# Altium integrated library Linear Technology Power Management LDO Linear Regulators.IntLib: 2339 symbols (part 55 of 131)
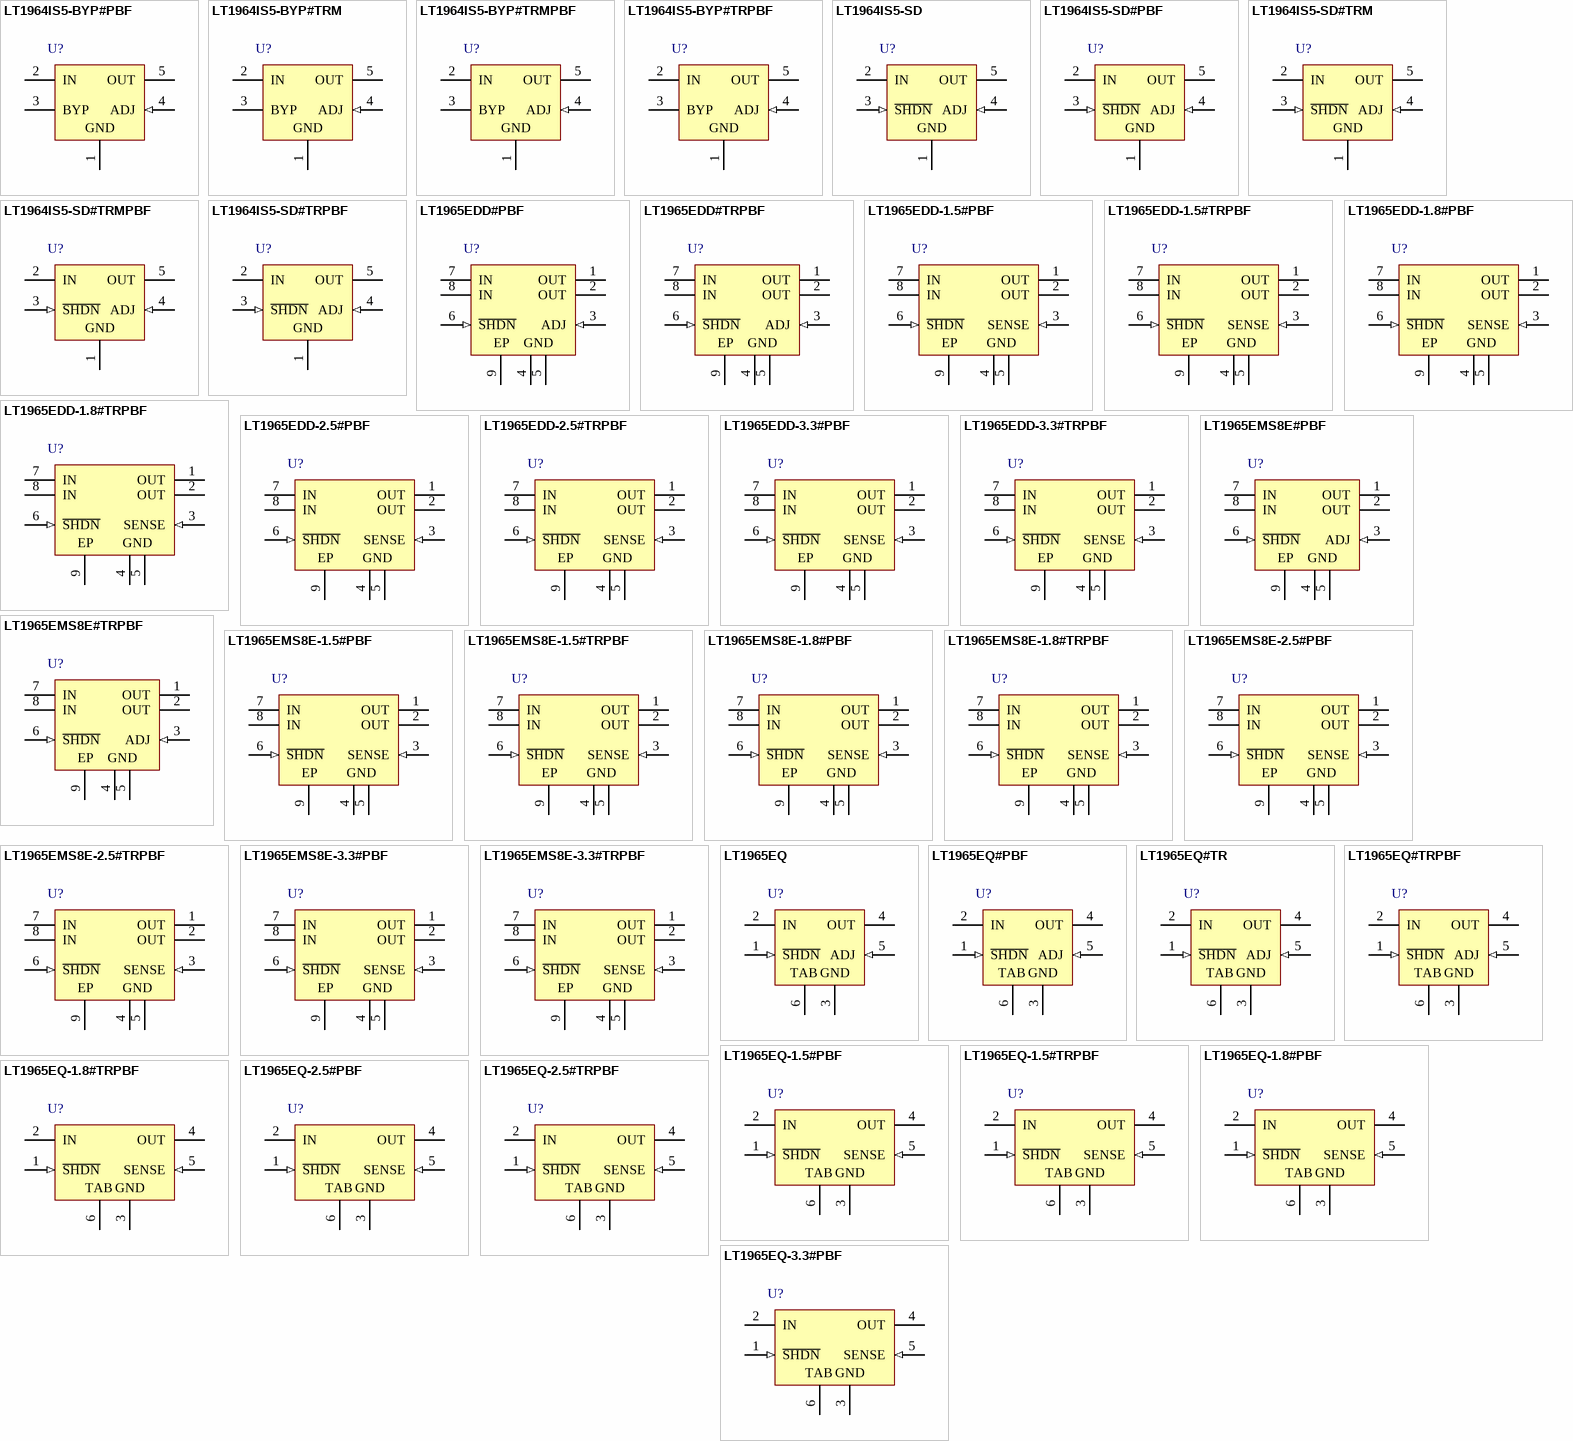
[diagram p123: symbols LT1964IS5-BYP#PBF to LT1965EQ-3.3#PBF]

## LT1965EQ#TR
designator U?
1.1 A, Low Noise, Low Dropout Linear Regulator, 1.8 to 20 V Vin, Adjustable Vout, 5-pin DPAK (Q-5), -40 to 125 degC, Tape and Reel; Manufacturer: Linear Technology; PartNumber: LT1965EQ#TR; Discrete Pass Element: no; Dropout Voltage(V): 0.31; Iout(mA): 1100; Isupply(mA): 0.5; Noise(uV): 40; Number of Outputs: 1; Output Voltage: Adj; PSRR(dB): 75; Vin Max(V): 20; Vin Min(V): 1.8; Vout Max(V): 19.5; Vout Min(V): 1.2; DatasheetVersion: Rev. A; PackageVersion: Rev. F, 09/2011; PackageReference: Q-5; PackageDescription: 5-Pin Plastic DD Pak, Body 10.2235 x 8.89 mm, Pitch 1.702 mm; Packing: Tape and Reel; RoHS: FALSE; Shutdown Current(uA): 1; Mounting Technology: Surface Mount; ComponentLink1Description: Manufacturer URL; ComponentLink1URL: http://www.linear.com/; ComponentLink2Description: Datasheet; ComponentLink2URL: http://cds.linear.com/docs/en/datasheet/1965fa.pdf; ComponentLink3Description: Package Specification; ComponentLink3URL: http://cds.linear.com/docs/en/packaging/Q%20DD5%2005-08-1461%20Rev%20F.pdf
footprint LT-Q-5_N (DPAK, 5-Leads, Body 10.22x8.89mm, Pitch 1.702mm, IPC Medium Density)
footprint LT-Q-5_L (DPAK, 5-Leads, Body 10.22x8.89mm, Pitch 1.702mm, IPC High Density)
footprint LT-Q-5_M (DPAK, 5-Leads, Body 10.22x8.89mm, Pitch 1.702mm, IPC Low Density)
pins: 1 ~{SHDN} (in) "Shutdown", 2 IN (power) "Input", 3 GND (power) "Ground", 4 OUT (power) "Output", 5 ADJ (in) "Adjust", 6 TAB (power) "Ground"

## LT1965EQ#TRPBF
designator U?
1.1 A, Low Noise, Low Dropout Linear Regulator, 1.8 to 20 V Vin, Adjustable Vout, 5-pin DPAK (Q-5), -40 to 125 degC, Pb-Free, Tape and Reel; Manufacturer: Linear Technology; PartNumber: LT1965EQ#TRPBF; Discrete Pass Element: no; Dropout Voltage(V): 0.31; Iout(mA): 1100; Isupply(mA): 0.5; Noise(uV): 40; Number of Outputs: 1; Output Voltage: Adj; PSRR(dB): 75; Vin Max(V): 20; Vin Min(V): 1.8; Vout Max(V): 19.5; Vout Min(V): 1.2; DatasheetVersion: Rev. A; PackageVersion: Rev. F, 09/2011; PackageReference: Q-5; PackageDescription: 5-Pin Plastic DD Pak, Body 10.2235 x 8.89 mm, Pitch 1.702 mm; Supplier 1: Digi-Key; Supplier Part Number 1: LT1965EQ#TRPBF-ND; Packing: Tape and Reel; RoHS: TRUE; Shutdown Current(uA): 1; Mounting Technology: Surface Mount; ComponentLink1Description: Manufacturer URL; ComponentLink1URL: http://www.linear.com/; ComponentLink2Description: Datasheet; ComponentLink2URL: http://cds.linear.com/docs/en/datasheet/1965fa.pdf; ComponentLink3Description: Package Specification; ComponentLink3URL: http://cds.linear.com/docs/en/packaging/Q%20DD5%2005-08-1461%20Rev%20F.pdf
footprint LT-Q-5_N (DPAK, 5-Leads, Body 10.22x8.89mm, Pitch 1.702mm, IPC Medium Density)
footprint LT-Q-5_L (DPAK, 5-Leads, Body 10.22x8.89mm, Pitch 1.702mm, IPC High Density)
footprint LT-Q-5_M (DPAK, 5-Leads, Body 10.22x8.89mm, Pitch 1.702mm, IPC Low Density)
pins: 1 ~{SHDN} (in) "Shutdown", 2 IN (power) "Input", 3 GND (power) "Ground", 4 OUT (power) "Output", 5 ADJ (in) "Adjust", 6 TAB (power) "Ground"

## LT1965EQ-1.5#PBF
designator U?
1.1 A, Low Noise, Low Dropout Linear Regulator, 1.8 to 20 V Vin, 1.5 V Vout, 5-pin DPAK (Q-5), -40 to 125 degC, Pb-Free; Manufacturer: Linear Technology; PartNumber: LT1965EQ-1.5#PBF; Discrete Pass Element: no; Dropout Voltage(V): 0.31; Iout(mA): 1100; Isupply(mA): 0.5; Noise(uV): 40; Number of Outputs: 1; Output Voltage: 1.5 V; PSRR(dB): 75; Vin Max(V): 20; Vin Min(V): 1.8; DatasheetVersion: Rev. A; PackageVersion: Rev. F, 09/2011; PackageReference: Q-5; PackageDescription: 5-Pin Plastic DD Pak, Body 10.2235 x 8.89 mm, Pitch 1.702 mm; Supplier 1: Digi-Key; Supplier Part Number 1: LT1965EQ-1.5#PBF-ND; Supplier 2: Newark; Supplier Part Number 2: 24R6667; RoHS: TRUE; Shutdown Current(uA): 1; Mounting Technology: Surface Mount; ComponentLink1Description: Manufacturer URL; ComponentLink1URL: http://www.linear.com/; ComponentLink2Description: Datasheet; ComponentLink2URL: http://cds.linear.com/docs/en/datasheet/1965fa.pdf; ComponentLink3Description: Package Specification; ComponentLink3URL: http://cds.linear.com/docs/en/packaging/Q%20DD5%2005-08-1461%20Rev%20F.pdf
footprint LT-Q-5_N (DPAK, 5-Leads, Body 10.22x8.89mm, Pitch 1.702mm, IPC Medium Density)
footprint LT-Q-5_L (DPAK, 5-Leads, Body 10.22x8.89mm, Pitch 1.702mm, IPC High Density)
footprint LT-Q-5_M (DPAK, 5-Leads, Body 10.22x8.89mm, Pitch 1.702mm, IPC Low Density)
pins: 1 ~{SHDN} (in) "Shutdown. Pulling the S\H\D\N\ pin low puts the LT1965 into a low power state and turns the output off. Drive the S\H\D\N\ pin with either logic or an open collector/drain with a pull-up resistor. The resistor supplies the (See Datasheet)", 2 IN (power) "Input. This pin supplies power to the device. The LT1965 requires a bypass capacitor at IN if located more than six inches from the main input filter capacitor. Include a bypass capacitor in battery-powered circuits as a (See Datasheet)", 3 GND (power) "Ground.", 4 OUT (power) "Output. This pin supplies power to the load. Use a minimum output capacitor of 10uF to prevent oscillations. Large load transient applications require larger output capacitors to limit peak voltage transients. See the (See Datasheet)", 5 SENSE (in) "Sense. For fixed voltage versions of the LT1965 (LT1965-1.5/LT1965-1.8/ LT1965-2.5/ LT1965-3.3), the SENSE pin is the input to the error amplifier. Optimum regulation is obtained when the SENSE pin is connected to the OUT (See Datasheet)", 6 TAB (power) "Ground."

## LT1965EQ-1.5#TRPBF
designator U?
1.1 A, Low Noise, Low Dropout Linear Regulator, 1.8 to 20 V Vin, 1.5 V Vout, 5-pin DPAK (Q-5), -40 to 125 degC, Pb-Free, Tape and Reel; Manufacturer: Linear Technology; PartNumber: LT1965EQ-1.5#TRPBF; Discrete Pass Element: no; Dropout Voltage(V): 0.31; Iout(mA): 1100; Isupply(mA): 0.5; Noise(uV): 40; Number of Outputs: 1; Output Voltage: 1.5 V; PSRR(dB): 75; Vin Max(V): 20; Vin Min(V): 1.8; DatasheetVersion: Rev. A; PackageVersion: Rev. F, 09/2011; PackageReference: Q-5; PackageDescription: 5-Pin Plastic DD Pak, Body 10.2235 x 8.89 mm, Pitch 1.702 mm; Supplier 1: Digi-Key; Supplier Part Number 1: LT1965EQ-1.5#TRPBF-ND; Packing: Tape and Reel; RoHS: TRUE; Shutdown Current(uA): 1; Mounting Technology: Surface Mount; ComponentLink1Description: Manufacturer URL; ComponentLink1URL: http://www.linear.com/; ComponentLink2Description: Datasheet; ComponentLink2URL: http://cds.linear.com/docs/en/datasheet/1965fa.pdf; ComponentLink3Description: Package Specification; ComponentLink3URL: http://cds.linear.com/docs/en/packaging/Q%20DD5%2005-08-1461%20Rev%20F.pdf
footprint LT-Q-5_N (DPAK, 5-Leads, Body 10.22x8.89mm, Pitch 1.702mm, IPC Medium Density)
footprint LT-Q-5_L (DPAK, 5-Leads, Body 10.22x8.89mm, Pitch 1.702mm, IPC High Density)
footprint LT-Q-5_M (DPAK, 5-Leads, Body 10.22x8.89mm, Pitch 1.702mm, IPC Low Density)
pins: 1 ~{SHDN} (in) "Shutdown. Pulling the S\H\D\N\ pin low puts the LT1965 into a low power state and turns the output off. Drive the S\H\D\N\ pin with either logic or an open collector/drain with a pull-up resistor. The resistor supplies the (See Datasheet)", 2 IN (power) "Input. This pin supplies power to the device. The LT1965 requires a bypass capacitor at IN if located more than six inches from the main input filter capacitor. Include a bypass capacitor in battery-powered circuits as a (See Datasheet)", 3 GND (power) "Ground.", 4 OUT (power) "Output. This pin supplies power to the load. Use a minimum output capacitor of 10uF to prevent oscillations. Large load transient applications require larger output capacitors to limit peak voltage transients. See the (See Datasheet)", 5 SENSE (in) "Sense. For fixed voltage versions of the LT1965 (LT1965-1.5/LT1965-1.8/ LT1965-2.5/ LT1965-3.3), the SENSE pin is the input to the error amplifier. Optimum regulation is obtained when the SENSE pin is connected to the OUT (See Datasheet)", 6 TAB (power) "Ground."

## LT1965EQ-1.8#PBF
designator U?
1.1 A, Low Noise, Low Dropout Linear Regulator, 1.8 to 20 V Vin, 1.8 V Vout, 5-pin DPAK (Q-5), -40 to 125 degC, Pb-Free; Manufacturer: Linear Technology; PartNumber: LT1965EQ-1.8#PBF; Discrete Pass Element: no; Dropout Voltage(V): 0.31; Iout(mA): 1100; Isupply(mA): 0.5; Noise(uV): 40; Number of Outputs: 1; Output Voltage: 1.8 V; PSRR(dB): 75; Vin Max(V): 20; Vin Min(V): 1.8; DatasheetVersion: Rev. A; PackageVersion: Rev. F, 09/2011; PackageReference: Q-5; PackageDescription: 5-Pin Plastic DD Pak, Body 10.2235 x 8.89 mm, Pitch 1.702 mm; Supplier 1: Digi-Key; Supplier Part Number 1: LT1965EQ-1.8#PBF-ND; RoHS: TRUE; Shutdown Current(uA): 1; Mounting Technology: Surface Mount; ComponentLink1Description: Manufacturer URL; ComponentLink1URL: http://www.linear.com/; ComponentLink2Description: Datasheet; ComponentLink2URL: http://cds.linear.com/docs/en/datasheet/1965fa.pdf; ComponentLink3Description: Package Specification; ComponentLink3URL: http://cds.linear.com/docs/en/packaging/Q%20DD5%2005-08-1461%20Rev%20F.pdf
footprint LT-Q-5_N (DPAK, 5-Leads, Body 10.22x8.89mm, Pitch 1.702mm, IPC Medium Density)
footprint LT-Q-5_L (DPAK, 5-Leads, Body 10.22x8.89mm, Pitch 1.702mm, IPC High Density)
footprint LT-Q-5_M (DPAK, 5-Leads, Body 10.22x8.89mm, Pitch 1.702mm, IPC Low Density)
pins: 1 ~{SHDN} (in) "Shutdown. Pulling the S\H\D\N\ pin low puts the LT1965 into a low power state and turns the output off. Drive the S\H\D\N\ pin with either logic or an open collector/drain with a pull-up resistor. The resistor supplies the (See Datasheet)", 2 IN (power) "Input. This pin supplies power to the device. The LT1965 requires a bypass capacitor at IN if located more than six inches from the main input filter capacitor. Include a bypass capacitor in battery-powered circuits as a (See Datasheet)", 3 GND (power) "Ground.", 4 OUT (power) "Output. This pin supplies power to the load. Use a minimum output capacitor of 10uF to prevent oscillations. Large load transient applications require larger output capacitors to limit peak voltage transients. See the (See Datasheet)", 5 SENSE (in) "Sense. For fixed voltage versions of the LT1965 (LT1965-1.5/LT1965-1.8/ LT1965-2.5/ LT1965-3.3), the SENSE pin is the input to the error amplifier. Optimum regulation is obtained when the SENSE pin is connected to the OUT (See Datasheet)", 6 TAB (power) "Ground."

## LT1965EQ-1.8#TRPBF
designator U?
1.1 A, Low Noise, Low Dropout Linear Regulator, 1.8 to 20 V Vin, 1.8 V Vout, 5-pin DPAK (Q-5), -40 to 125 degC, Pb-Free, Tape and Reel; Manufacturer: Linear Technology; PartNumber: LT1965EQ-1.8#TRPBF; Discrete Pass Element: no; Dropout Voltage(V): 0.31; Iout(mA): 1100; Isupply(mA): 0.5; Noise(uV): 40; Number of Outputs: 1; Output Voltage: 1.8 V; PSRR(dB): 75; Vin Max(V): 20; Vin Min(V): 1.8; DatasheetVersion: Rev. A; PackageVersion: Rev. F, 09/2011; PackageReference: Q-5; PackageDescription: 5-Pin Plastic DD Pak, Body 10.2235 x 8.89 mm, Pitch 1.702 mm; Supplier 1: Digi-Key; Supplier Part Number 1: LT1965EQ-1.8#TRPBF-ND; Packing: Tape and Reel; RoHS: TRUE; Shutdown Current(uA): 1; Mounting Technology: Surface Mount; ComponentLink1Description: Manufacturer URL; ComponentLink1URL: http://www.linear.com/; ComponentLink2Description: Datasheet; ComponentLink2URL: http://cds.linear.com/docs/en/datasheet/1965fa.pdf; ComponentLink3Description: Package Specification; ComponentLink3URL: http://cds.linear.com/docs/en/packaging/Q%20DD5%2005-08-1461%20Rev%20F.pdf
footprint LT-Q-5_N (DPAK, 5-Leads, Body 10.22x8.89mm, Pitch 1.702mm, IPC Medium Density)
footprint LT-Q-5_L (DPAK, 5-Leads, Body 10.22x8.89mm, Pitch 1.702mm, IPC High Density)
footprint LT-Q-5_M (DPAK, 5-Leads, Body 10.22x8.89mm, Pitch 1.702mm, IPC Low Density)
pins: 1 ~{SHDN} (in) "Shutdown. Pulling the S\H\D\N\ pin low puts the LT1965 into a low power state and turns the output off. Drive the S\H\D\N\ pin with either logic or an open collector/drain with a pull-up resistor. The resistor supplies the (See Datasheet)", 2 IN (power) "Input. This pin supplies power to the device. The LT1965 requires a bypass capacitor at IN if located more than six inches from the main input filter capacitor. Include a bypass capacitor in battery-powered circuits as a (See Datasheet)", 3 GND (power) "Ground.", 4 OUT (power) "Output. This pin supplies power to the load. Use a minimum output capacitor of 10uF to prevent oscillations. Large load transient applications require larger output capacitors to limit peak voltage transients. See the (See Datasheet)", 5 SENSE (in) "Sense. For fixed voltage versions of the LT1965 (LT1965-1.5/LT1965-1.8/ LT1965-2.5/ LT1965-3.3), the SENSE pin is the input to the error amplifier. Optimum regulation is obtained when the SENSE pin is connected to the OUT (See Datasheet)", 6 TAB (power) "Ground."

## LT1965EQ-2.5#PBF
designator U?
1.1 A, Low Noise, Low Dropout Linear Regulator, 1.8 to 20 V Vin, 2.5 V Vout, 5-pin DPAK (Q-5), -40 to 125 degC, Pb-Free; Manufacturer: Linear Technology; PartNumber: LT1965EQ-2.5#PBF; Discrete Pass Element: no; Dropout Voltage(V): 0.31; Iout(mA): 1100; Isupply(mA): 0.5; Noise(uV): 40; Number of Outputs: 1; Output Voltage: 2.5 V; PSRR(dB): 75; Vin Max(V): 20; Vin Min(V): 1.8; DatasheetVersion: Rev. A; PackageVersion: Rev. F, 09/2011; PackageReference: Q-5; PackageDescription: 5-Pin Plastic DD Pak, Body 10.2235 x 8.89 mm, Pitch 1.702 mm; Supplier 1: Digi-Key; Supplier Part Number 1: LT1965EQ-2.5#PBF-ND; RoHS: TRUE; Shutdown Current(uA): 1; Mounting Technology: Surface Mount; ComponentLink1Description: Manufacturer URL; ComponentLink1URL: http://www.linear.com/; ComponentLink2Description: Datasheet; ComponentLink2URL: http://cds.linear.com/docs/en/datasheet/1965fa.pdf; ComponentLink3Description: Package Specification; ComponentLink3URL: http://cds.linear.com/docs/en/packaging/Q%20DD5%2005-08-1461%20Rev%20F.pdf
footprint LT-Q-5_N (DPAK, 5-Leads, Body 10.22x8.89mm, Pitch 1.702mm, IPC Medium Density)
footprint LT-Q-5_L (DPAK, 5-Leads, Body 10.22x8.89mm, Pitch 1.702mm, IPC High Density)
footprint LT-Q-5_M (DPAK, 5-Leads, Body 10.22x8.89mm, Pitch 1.702mm, IPC Low Density)
pins: 1 ~{SHDN} (in) "Shutdown. Pulling the S\H\D\N\ pin low puts the LT1965 into a low power state and turns the output off. Drive the S\H\D\N\ pin with either logic or an open collector/drain with a pull-up resistor. The resistor supplies the (See Datasheet)", 2 IN (power) "Input. This pin supplies power to the device. The LT1965 requires a bypass capacitor at IN if located more than six inches from the main input filter capacitor. Include a bypass capacitor in battery-powered circuits as a (See Datasheet)", 3 GND (power) "Ground.", 4 OUT (power) "Output. This pin supplies power to the load. Use a minimum output capacitor of 10uF to prevent oscillations. Large load transient applications require larger output capacitors to limit peak voltage transients. See the (See Datasheet)", 5 SENSE (in) "Sense. For fixed voltage versions of the LT1965 (LT1965-1.5/LT1965-1.8/ LT1965-2.5/ LT1965-3.3), the SENSE pin is the input to the error amplifier. Optimum regulation is obtained when the SENSE pin is connected to the OUT (See Datasheet)", 6 TAB (power) "Ground."

## LT1965EQ-2.5#TRPBF
designator U?
1.1 A, Low Noise, Low Dropout Linear Regulator, 1.8 to 20 V Vin, 2.5 V Vout, 5-pin DPAK (Q-5), -40 to 125 degC, Pb-Free, Tape and Reel; Manufacturer: Linear Technology; PartNumber: LT1965EQ-2.5#TRPBF; Discrete Pass Element: no; Dropout Voltage(V): 0.31; Iout(mA): 1100; Isupply(mA): 0.5; Noise(uV): 40; Number of Outputs: 1; Output Voltage: 2.5 V; PSRR(dB): 75; Vin Max(V): 20; Vin Min(V): 1.8; DatasheetVersion: Rev. A; PackageVersion: Rev. F, 09/2011; PackageReference: Q-5; PackageDescription: 5-Pin Plastic DD Pak, Body 10.2235 x 8.89 mm, Pitch 1.702 mm; Supplier 1: Digi-Key; Supplier Part Number 1: LT1965EQ-2.5#TRPBF-ND; Supplier 2: Newark; Supplier Part Number 2: 24R6672; Packing: Tape and Reel; RoHS: TRUE; Shutdown Current(uA): 1; Mounting Technology: Surface Mount; ComponentLink1Description: Manufacturer URL; ComponentLink1URL: http://www.linear.com/; ComponentLink2Description: Datasheet; ComponentLink2URL: http://cds.linear.com/docs/en/datasheet/1965fa.pdf; ComponentLink3Description: Package Specification; ComponentLink3URL: http://cds.linear.com/docs/en/packaging/Q%20DD5%2005-08-1461%20Rev%20F.pdf
footprint LT-Q-5_N (DPAK, 5-Leads, Body 10.22x8.89mm, Pitch 1.702mm, IPC Medium Density)
footprint LT-Q-5_L (DPAK, 5-Leads, Body 10.22x8.89mm, Pitch 1.702mm, IPC High Density)
footprint LT-Q-5_M (DPAK, 5-Leads, Body 10.22x8.89mm, Pitch 1.702mm, IPC Low Density)
pins: 1 ~{SHDN} (in) "Shutdown. Pulling the S\H\D\N\ pin low puts the LT1965 into a low power state and turns the output off. Drive the S\H\D\N\ pin with either logic or an open collector/drain with a pull-up resistor. The resistor supplies the (See Datasheet)", 2 IN (power) "Input. This pin supplies power to the device. The LT1965 requires a bypass capacitor at IN if located more than six inches from the main input filter capacitor. Include a bypass capacitor in battery-powered circuits as a (See Datasheet)", 3 GND (power) "Ground.", 4 OUT (power) "Output. This pin supplies power to the load. Use a minimum output capacitor of 10uF to prevent oscillations. Large load transient applications require larger output capacitors to limit peak voltage transients. See the (See Datasheet)", 5 SENSE (in) "Sense. For fixed voltage versions of the LT1965 (LT1965-1.5/LT1965-1.8/ LT1965-2.5/ LT1965-3.3), the SENSE pin is the input to the error amplifier. Optimum regulation is obtained when the SENSE pin is connected to the OUT (See Datasheet)", 6 TAB (power) "Ground."

## LT1965EQ-3.3#PBF
designator U?
1.1 A, Low Noise, Low Dropout Linear Regulator, 1.8 to 20 V Vin, 3.3 V Vout, 5-pin DPAK (Q-5), -40 to 125 degC, Pb-Free; Manufacturer: Linear Technology; PartNumber: LT1965EQ-3.3#PBF; Discrete Pass Element: no; Dropout Voltage(V): 0.31; Iout(mA): 1100; Isupply(mA): 0.5; Noise(uV): 40; Number of Outputs: 1; Output Voltage: 3.3 V; PSRR(dB): 75; Vin Max(V): 20; Vin Min(V): 1.8; DatasheetVersion: Rev. A; PackageVersion: Rev. F, 09/2011; PackageReference: Q-5; PackageDescription: 5-Pin Plastic DD Pak, Body 10.2235 x 8.89 mm, Pitch 1.702 mm; Supplier 1: Digi-Key; Supplier Part Number 1: LT1965EQ-3.3#PBF-ND; Supplier 2: Farnell; Supplier Part Number 2: 2295232; Supplier 3: Newark; Supplier Part Number 3: 24R6673; RoHS: TRUE; Shutdown Current(uA): 1; Mounting Technology: Surface Mount; ComponentLink1Description: Manufacturer URL; ComponentLink1URL: http://www.linear.com/; ComponentLink2Description: Datasheet; ComponentLink2URL: http://cds.linear.com/docs/en/datasheet/1965fa.pdf; ComponentLink3Description: Package Specification; ComponentLink3URL: http://cds.linear.com/docs/en/packaging/Q%20DD5%2005-08-1461%20Rev%20F.pdf
footprint LT-Q-5_N (DPAK, 5-Leads, Body 10.22x8.89mm, Pitch 1.702mm, IPC Medium Density)
footprint LT-Q-5_L (DPAK, 5-Leads, Body 10.22x8.89mm, Pitch 1.702mm, IPC High Density)
footprint LT-Q-5_M (DPAK, 5-Leads, Body 10.22x8.89mm, Pitch 1.702mm, IPC Low Density)
pins: 1 ~{SHDN} (in) "Shutdown. Pulling the S\H\D\N\ pin low puts the LT1965 into a low power state and turns the output off. Drive the S\H\D\N\ pin with either logic or an open collector/drain with a pull-up resistor. The resistor supplies the (See Datasheet)", 2 IN (power) "Input. This pin supplies power to the device. The LT1965 requires a bypass capacitor at IN if located more than six inches from the main input filter capacitor. Include a bypass capacitor in battery-powered circuits as a (See Datasheet)", 3 GND (power) "Ground.", 4 OUT (power) "Output. This pin supplies power to the load. Use a minimum output capacitor of 10uF to prevent oscillations. Large load transient applications require larger output capacitors to limit peak voltage transients. See the (See Datasheet)", 5 SENSE (in) "Sense. For fixed voltage versions of the LT1965 (LT1965-1.5/LT1965-1.8/ LT1965-2.5/ LT1965-3.3), the SENSE pin is the input to the error amplifier. Optimum regulation is obtained when the SENSE pin is connected to the OUT (See Datasheet)", 6 TAB (power) "Ground."

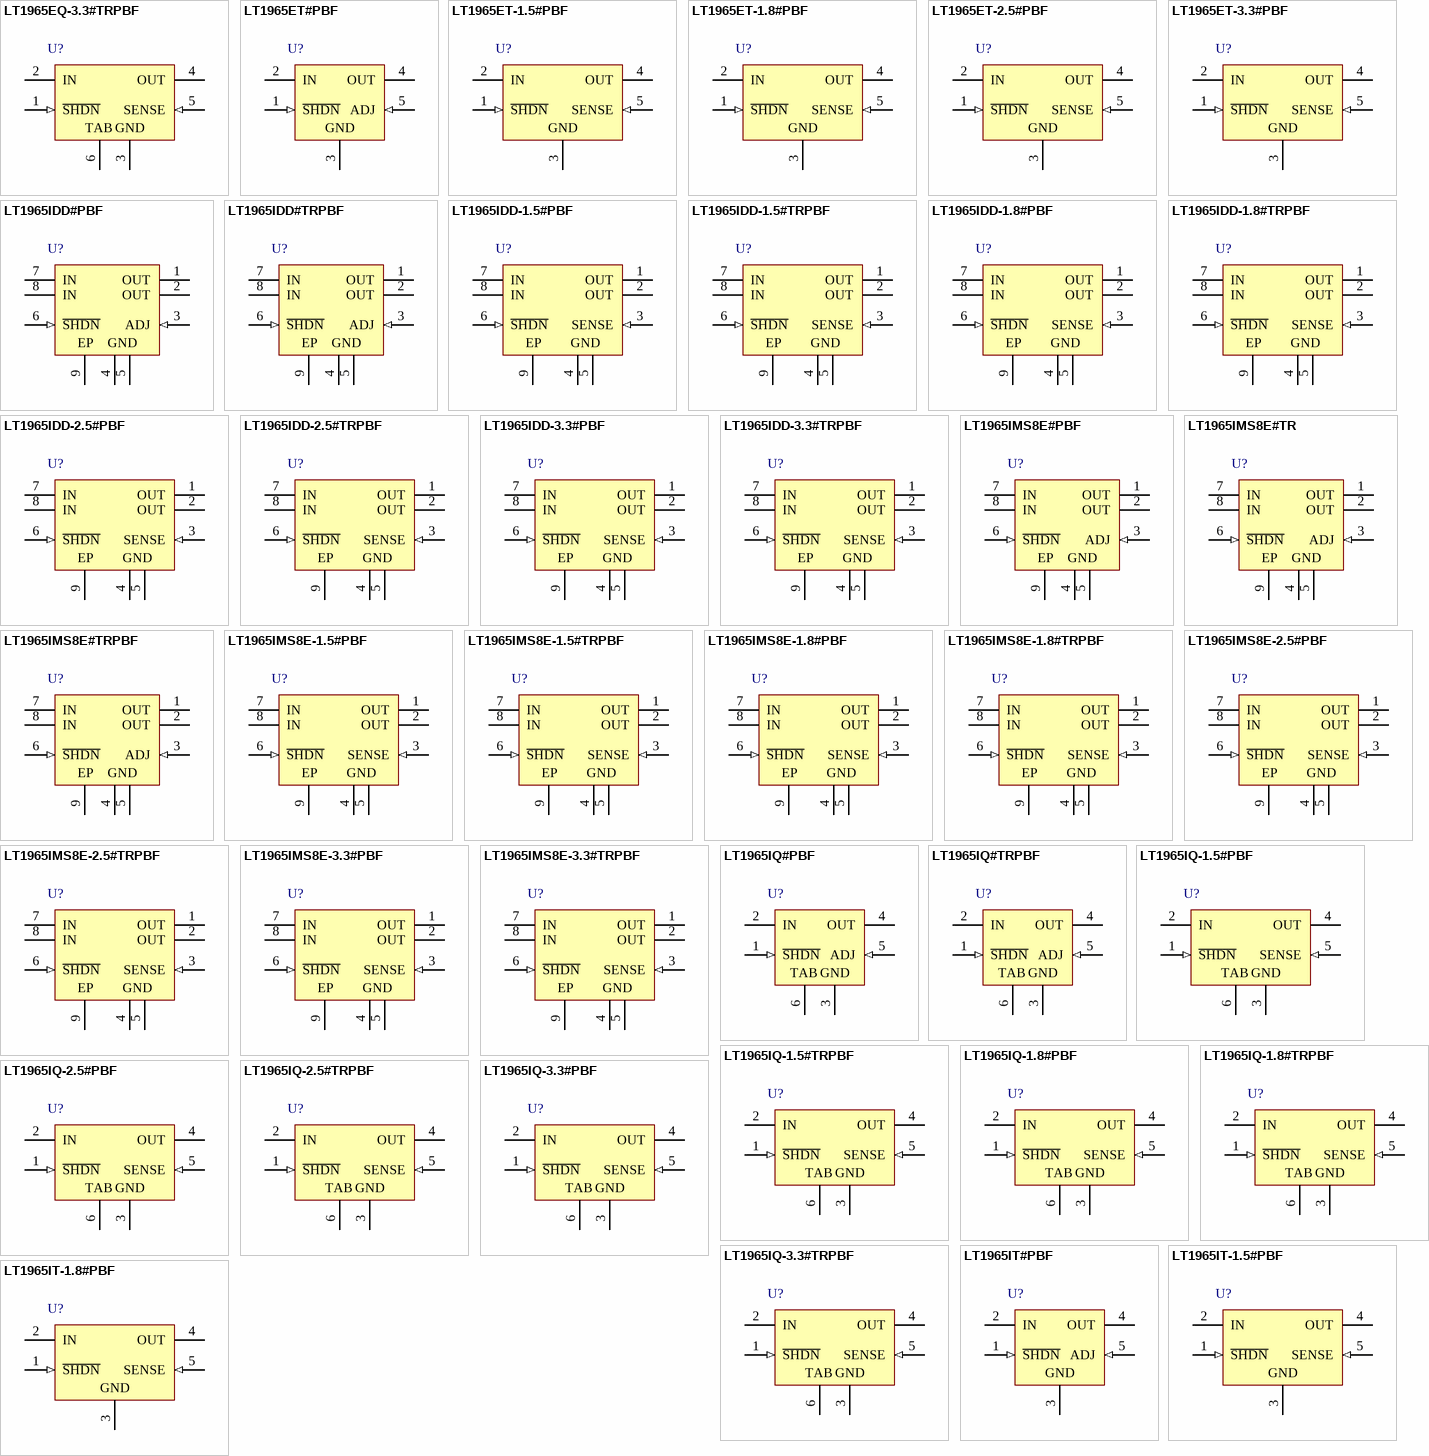
[diagram p36: symbols LT1965EQ-3.3#TRPBF to LT1965IT-1.8#PBF]

## LT1965EQ-3.3#TRPBF
designator U?
1.1 A, Low Noise, Low Dropout Linear Regulator, 1.8 to 20 V Vin, 3.3 V Vout, 5-pin DPAK (Q-5), -40 to 125 degC, Pb-Free, Tape and Reel; Manufacturer: Linear Technology; PartNumber: LT1965EQ-3.3#TRPBF; Discrete Pass Element: no; Dropout Voltage(V): 0.31; Iout(mA): 1100; Isupply(mA): 0.5; Noise(uV): 40; Number of Outputs: 1; Output Voltage: 3.3 V; PSRR(dB): 75; Vin Max(V): 20; Vin Min(V): 1.8; DatasheetVersion: Rev. A; PackageVersion: Rev. F, 09/2011; PackageReference: Q-5; PackageDescription: 5-Pin Plastic DD Pak, Body 10.2235 x 8.89 mm, Pitch 1.702 mm; Supplier 1: Digi-Key; Supplier Part Number 1: LT1965EQ-3.3#TRPBF-ND; Packing: Tape and Reel; RoHS: TRUE; Shutdown Current(uA): 1; Mounting Technology: Surface Mount; ComponentLink1Description: Manufacturer URL; ComponentLink1URL: http://www.linear.com/; ComponentLink2Description: Datasheet; ComponentLink2URL: http://cds.linear.com/docs/en/datasheet/1965fa.pdf; ComponentLink3Description: Package Specification; ComponentLink3URL: http://cds.linear.com/docs/en/packaging/Q%20DD5%2005-08-1461%20Rev%20F.pdf
footprint LT-Q-5_N (DPAK, 5-Leads, Body 10.22x8.89mm, Pitch 1.702mm, IPC Medium Density)
footprint LT-Q-5_L (DPAK, 5-Leads, Body 10.22x8.89mm, Pitch 1.702mm, IPC High Density)
footprint LT-Q-5_M (DPAK, 5-Leads, Body 10.22x8.89mm, Pitch 1.702mm, IPC Low Density)
pins: 1 ~{SHDN} (in) "Shutdown. Pulling the S\H\D\N\ pin low puts the LT1965 into a low power state and turns the output off. Drive the S\H\D\N\ pin with either logic or an open collector/drain with a pull-up resistor. The resistor supplies the (See Datasheet)", 2 IN (power) "Input. This pin supplies power to the device. The LT1965 requires a bypass capacitor at IN if located more than six inches from the main input filter capacitor. Include a bypass capacitor in battery-powered circuits as a (See Datasheet)", 3 GND (power) "Ground.", 4 OUT (power) "Output. This pin supplies power to the load. Use a minimum output capacitor of 10uF to prevent oscillations. Large load transient applications require larger output capacitors to limit peak voltage transients. See the (See Datasheet)", 5 SENSE (in) "Sense. For fixed voltage versions of the LT1965 (LT1965-1.5/LT1965-1.8/ LT1965-2.5/ LT1965-3.3), the SENSE pin is the input to the error amplifier. Optimum regulation is obtained when the SENSE pin is connected to the OUT (See Datasheet)", 6 TAB (power) "Ground."

## LT1965ET#PBF
designator U?
1.1 A, Low Noise, Low Dropout Linear Regulator, 1.8 to 20 V Vin, Adjustable Vout, 5-pin FM (T-5), -40 to 125 degC, Pb-Free; Manufacturer: Linear Technology; PartNumber: LT1965ET#PBF; Discrete Pass Element: no; Dropout Voltage(V): 0.31; Iout(mA): 1100; Isupply(mA): 0.5; Noise(uV): 40; Number of Outputs: 1; Output Voltage: Adj; PSRR(dB): 75; Vin Max(V): 20; Vin Min(V): 1.8; Vout Max(V): 19.5; Vout Min(V): 1.2; DatasheetVersion: Rev. A; PackageVersion: Aug-10; PackageReference: T-5; PackageDescription: 5-Pin Plastic TO-220 (Standard), Body 10.224 x 8.89 mm, Pitch 1.7 mm; Supplier 1: Digi-Key; Supplier Part Number 1: LT1965ET#PBF-ND; RoHS: TRUE; Shutdown Current(uA): 1; Mounting Technology: Through Hole; ComponentLink1Description: Manufacturer URL; ComponentLink1URL: http://www.linear.com/; ComponentLink2Description: Datasheet; ComponentLink2URL: http://cds.linear.com/docs/en/datasheet/1965fa.pdf; ComponentLink3Description: Package Specification; ComponentLink3URL: http://cds.linear.com/docs/en/packaging/TO-220_5_05-08-1421.pdf
footprint LT-T-5-S (FM, 5-Leads, Body 10.2235x4.3815mm, Pitch 1.7mm)
pins: 1 ~{SHDN} (in), 2 IN (power), 3 GND (power) "Ground.", 4 OUT (power), 5 ADJ (in)

## LT1965ET-1.5#PBF
designator U?
1.1 A, Low Noise, Low Dropout Linear Regulator, 1.8 to 20 V Vin, 1.5 V Vout, 5-pin FM (T-5), -40 to 125 degC, Pb-Free; Manufacturer: Linear Technology; PartNumber: LT1965ET-1.5#PBF; Discrete Pass Element: no; Dropout Voltage(V): 0.31; Iout(mA): 1100; Isupply(mA): 0.5; Noise(uV): 40; Number of Outputs: 1; Output Voltage: 1.5 V; PSRR(dB): 75; Vin Max(V): 20; Vin Min(V): 1.8; DatasheetVersion: Rev. A; PackageVersion: Aug-10; PackageReference: T-5; PackageDescription: 5-Pin Plastic TO-220 (Standard), Body 10.224 x 8.89 mm, Pitch 1.7 mm; Supplier 1: Digi-Key; Supplier Part Number 1: LT1965ET-1.5#PBF-ND; RoHS: TRUE; Shutdown Current(uA): 1; Mounting Technology: Through Hole; ComponentLink1Description: Manufacturer URL; ComponentLink1URL: http://www.linear.com/; ComponentLink2Description: Datasheet; ComponentLink2URL: http://cds.linear.com/docs/en/datasheet/1965fa.pdf; ComponentLink3Description: Package Specification; ComponentLink3URL: http://cds.linear.com/docs/en/packaging/TO-220_5_05-08-1421.pdf
footprint LT-T-5-S (FM, 5-Leads, Body 10.2235x4.3815mm, Pitch 1.7mm)
pins: 1 ~{SHDN} (in), 2 IN (power), 3 GND (power) "Ground.", 4 OUT (power), 5 SENSE (in)

## LT1965ET-1.8#PBF
designator U?
1.1 A, Low Noise, Low Dropout Linear Regulator, 1.8 to 20 V Vin, 1.8 V Vout, 5-pin FM (T-5), -40 to 125 degC, Pb-Free; Manufacturer: Linear Technology; PartNumber: LT1965ET-1.8#PBF; Discrete Pass Element: no; Dropout Voltage(V): 0.31; Iout(mA): 1100; Isupply(mA): 0.5; Noise(uV): 40; Number of Outputs: 1; Output Voltage: 1.8 V; PSRR(dB): 75; Vin Max(V): 20; Vin Min(V): 1.8; DatasheetVersion: Rev. A; PackageVersion: Aug-10; PackageReference: T-5; PackageDescription: 5-Pin Plastic TO-220 (Standard), Body 10.224 x 8.89 mm, Pitch 1.7 mm; Supplier 1: Digi-Key; Supplier Part Number 1: LT1965ET-1.8#PBF-ND; Supplier 2: Newark; Supplier Part Number 2: 24R6676; RoHS: TRUE; Shutdown Current(uA): 1; Mounting Technology: Through Hole; ComponentLink1Description: Manufacturer URL; ComponentLink1URL: http://www.linear.com/; ComponentLink2Description: Datasheet; ComponentLink2URL: http://cds.linear.com/docs/en/datasheet/1965fa.pdf; ComponentLink3Description: Package Specification; ComponentLink3URL: http://cds.linear.com/docs/en/packaging/TO-220_5_05-08-1421.pdf
footprint LT-T-5-S (FM, 5-Leads, Body 10.2235x4.3815mm, Pitch 1.7mm)
pins: 1 ~{SHDN} (in), 2 IN (power), 3 GND (power) "Ground.", 4 OUT (power), 5 SENSE (in)

## LT1965ET-2.5#PBF
designator U?
1.1 A, Low Noise, Low Dropout Linear Regulator, 1.8 to 20 V Vin, 2.5 V Vout, 5-pin FM (T-5), -40 to 125 degC, Pb-Free; Manufacturer: Linear Technology; PartNumber: LT1965ET-2.5#PBF; Discrete Pass Element: no; Dropout Voltage(V): 0.31; Iout(mA): 1100; Isupply(mA): 0.5; Noise(uV): 40; Number of Outputs: 1; Output Voltage: 2.5 V; PSRR(dB): 75; Vin Max(V): 20; Vin Min(V): 1.8; DatasheetVersion: Rev. A; PackageVersion: Aug-10; PackageReference: T-5; PackageDescription: 5-Pin Plastic TO-220 (Standard), Body 10.224 x 8.89 mm, Pitch 1.7 mm; Supplier 1: Digi-Key; Supplier Part Number 1: LT1965ET-2.5#PBF-ND; RoHS: TRUE; Shutdown Current(uA): 1; Mounting Technology: Through Hole; ComponentLink1Description: Manufacturer URL; ComponentLink1URL: http://www.linear.com/; ComponentLink2Description: Datasheet; ComponentLink2URL: http://cds.linear.com/docs/en/datasheet/1965fa.pdf; ComponentLink3Description: Package Specification; ComponentLink3URL: http://cds.linear.com/docs/en/packaging/TO-220_5_05-08-1421.pdf
footprint LT-T-5-S (FM, 5-Leads, Body 10.2235x4.3815mm, Pitch 1.7mm)
pins: 1 ~{SHDN} (in), 2 IN (power), 3 GND (power) "Ground.", 4 OUT (power), 5 SENSE (in)

## LT1965ET-3.3#PBF
designator U?
1.1 A, Low Noise, Low Dropout Linear Regulator, 1.8 to 20 V Vin, 3.3 V Vout, 5-pin FM (T-5), -40 to 125 degC, Pb-Free; Manufacturer: Linear Technology; PartNumber: LT1965ET-3.3#PBF; Discrete Pass Element: no; Dropout Voltage(V): 0.31; Iout(mA): 1100; Isupply(mA): 0.5; Noise(uV): 40; Number of Outputs: 1; Output Voltage: 3.3 V; PSRR(dB): 75; Vin Max(V): 20; Vin Min(V): 1.8; DatasheetVersion: Rev. A; PackageVersion: Aug-10; PackageReference: T-5; PackageDescription: 5-Pin Plastic TO-220 (Standard), Body 10.224 x 8.89 mm, Pitch 1.7 mm; Supplier 1: Digi-Key; Supplier Part Number 1: LT1965ET-3.3#PBF-ND; RoHS: TRUE; Shutdown Current(uA): 1; Mounting Technology: Through Hole; ComponentLink1Description: Manufacturer URL; ComponentLink1URL: http://www.linear.com/; ComponentLink2Description: Datasheet; ComponentLink2URL: http://cds.linear.com/docs/en/datasheet/1965fa.pdf; ComponentLink3Description: Package Specification; ComponentLink3URL: http://cds.linear.com/docs/en/packaging/TO-220_5_05-08-1421.pdf
footprint LT-T-5-S (FM, 5-Leads, Body 10.2235x4.3815mm, Pitch 1.7mm)
pins: 1 ~{SHDN} (in), 2 IN (power), 3 GND (power) "Ground.", 4 OUT (power), 5 SENSE (in)

## LT1965IDD#PBF
designator U?
1.1 A, Low Noise, Low Dropout Linear Regulator, 1.8 to 20 V Vin, Adjustable Vout, 8-pin SON (DD-8), -40 to 125 degC, Pb-Free; Manufacturer: Linear Technology; PartNumber: LT1965IDD#PBF; Discrete Pass Element: no; Dropout Voltage(V): 0.31; Iout(mA): 1100; Isupply(mA): 0.5; Noise(uV): 40; Number of Outputs: 1; Output Voltage: Adj; PSRR(dB): 75; Vin Max(V): 20; Vin Min(V): 1.8; Vout Max(V): 19.5; Vout Min(V): 1.2; DatasheetVersion: Rev. A; PackageVersion: Jun-10; PackageReference: DD-8; PackageDescription: 8-Pin Plastic DFN, Body 3 x 3 mm, Pitch 0.5 mm; Supplier 1: Digi-Key; Supplier Part Number 1: LT1965IDD#PBF-ND; Supplier 2: Farnell; Supplier Part Number 2: 1663533; Supplier 3: Newark; Supplier Part Number 3: 57M7599; RoHS: TRUE; Shutdown Current(uA): 1; Mounting Technology: Surface Mount; Code_JEDEC: MO-229; ComponentLink1Description: Manufacturer URL; ComponentLink1URL: http://www.linear.com/; ComponentLink2Description: Datasheet; ComponentLink2URL: http://cds.linear.com/docs/en/datasheet/1965fa.pdf; ComponentLink3Description: Package Specification; ComponentLink3URL: http://cds.linear.com/docs/en/packaging/DFN_8_05-08-1698.pdf
footprint LT-DD-8_V (SON, 8-Leads, Body 3x3mm, Pitch 0.5mm, Thermal Pad 1.65x2.38 mm, IPC Low Density)
pins: 1 OUT (power) "Output. This pin supplies power to the load. Use a minimum output capacitor of 10uF to prevent oscillations. Large load transient applications require larger output capacitors to limit peak voltage transients. See the (See Datasheet)", 2 OUT (power) "Output. This pin supplies power to the load. Use a minimum output capacitor of 10uF to prevent oscillations. Large load transient applications require larger output capacitors to limit peak voltage transients. See the (See Datasheet)", 3 ADJ (in) "Adjust. This pin is the input to the error amplifier. It has a typical bias current of 1.3uA that flows into the pin. The ADJ pin voltage is 1.20V referenced to ground.", 4 GND (power) "Ground. For the adjustable LT1965, connect the bottom of the resistor divider, setting output voltage, directly to GND for optimum regulation.", 5 GND (power) "Ground. For the adjustable LT1965, connect the bottom of the resistor divider, setting output voltage, directly to GND for optimum regulation.", 6 ~{SHDN} (in) "Shutdown. Pulling the S\H\D\N\ pin low puts the LT1965 into a low power state and turns the output off. Drive the S\H\D\N\ pin with either logic or an open collector/drain with a pull-up resistor. The resistor supplies the (See Datasheet)", 7 IN (power) "Input. This pin supplies power to the device. The LT1965 requires a bypass capacitor at IN if located more than six inches from the main input filter capacitor. Include a bypass capacitor in battery-powered circuits as a (See Datasheet)", 8 IN (power) "Input. This pin supplies power to the device. The LT1965 requires a bypass capacitor at IN if located more than six inches from the main input filter capacitor. Include a bypass capacitor in battery-powered circuits as a (See Datasheet)", 9 EP (power) "Ground. Tie this pin directly to Pins 4 and 5 and the PCB ground. This pin provides enhanced thermal performance with its connection to the PCB ground. See the Applications Information section for thermal considerations and (See Datasheet)"

## LT1965IDD#TRPBF
designator U?
1.1 A, Low Noise, Low Dropout Linear Regulator, 1.8 to 20 V Vin, Adjustable Vout, 8-pin SON (DD-8), -40 to 125 degC, Pb-Free, Tape and Reel; Manufacturer: Linear Technology; PartNumber: LT1965IDD#TRPBF; Discrete Pass Element: no; Dropout Voltage(V): 0.31; Iout(mA): 1100; Isupply(mA): 0.5; Noise(uV): 40; Number of Outputs: 1; Output Voltage: Adj; PSRR(dB): 75; Vin Max(V): 20; Vin Min(V): 1.8; Vout Max(V): 19.5; Vout Min(V): 1.2; DatasheetVersion: Rev. A; PackageVersion: Jun-10; PackageReference: DD-8; PackageDescription: 8-Pin Plastic DFN, Body 3 x 3 mm, Pitch 0.5 mm; Supplier 1: Digi-Key; Supplier Part Number 1: LT1965IDD#TRPBF-ND; Supplier 2: Newark; Supplier Part Number 2: 57M7600; Packing: Tape and Reel; RoHS: TRUE; Shutdown Current(uA): 1; Mounting Technology: Surface Mount; Code_JEDEC: MO-229; ComponentLink1Description: Manufacturer URL; ComponentLink1URL: http://www.linear.com/; ComponentLink2Description: Datasheet; ComponentLink2URL: http://cds.linear.com/docs/en/datasheet/1965fa.pdf; ComponentLink3Description: Package Specification; ComponentLink3URL: http://cds.linear.com/docs/en/packaging/DFN_8_05-08-1698.pdf
footprint LT-DD-8_V (SON, 8-Leads, Body 3x3mm, Pitch 0.5mm, Thermal Pad 1.65x2.38 mm, IPC Low Density)
pins: 1 OUT (power) "Output. This pin supplies power to the load. Use a minimum output capacitor of 10uF to prevent oscillations. Large load transient applications require larger output capacitors to limit peak voltage transients. See the (See Datasheet)", 2 OUT (power) "Output. This pin supplies power to the load. Use a minimum output capacitor of 10uF to prevent oscillations. Large load transient applications require larger output capacitors to limit peak voltage transients. See the (See Datasheet)", 3 ADJ (in) "Adjust. This pin is the input to the error amplifier. It has a typical bias current of 1.3uA that flows into the pin. The ADJ pin voltage is 1.20V referenced to ground.", 4 GND (power) "Ground. For the adjustable LT1965, connect the bottom of the resistor divider, setting output voltage, directly to GND for optimum regulation.", 5 GND (power) "Ground. For the adjustable LT1965, connect the bottom of the resistor divider, setting output voltage, directly to GND for optimum regulation.", 6 ~{SHDN} (in) "Shutdown. Pulling the S\H\D\N\ pin low puts the LT1965 into a low power state and turns the output off. Drive the S\H\D\N\ pin with either logic or an open collector/drain with a pull-up resistor. The resistor supplies the (See Datasheet)", 7 IN (power) "Input. This pin supplies power to the device. The LT1965 requires a bypass capacitor at IN if located more than six inches from the main input filter capacitor. Include a bypass capacitor in battery-powered circuits as a (See Datasheet)", 8 IN (power) "Input. This pin supplies power to the device. The LT1965 requires a bypass capacitor at IN if located more than six inches from the main input filter capacitor. Include a bypass capacitor in battery-powered circuits as a (See Datasheet)", 9 EP (power) "Ground. Tie this pin directly to Pins 4 and 5 and the PCB ground. This pin provides enhanced thermal performance with its connection to the PCB ground. See the Applications Information section for thermal considerations and (See Datasheet)"

## LT1965IDD-1.5#PBF
designator U?
1.1 A, Low Noise, Low Dropout Linear Regulator, 1.8 to 20 V Vin, 1.5 V Vout, 8-pin SON (DD-8), -40 to 125 degC, Pb-Free; Manufacturer: Linear Technology; PartNumber: LT1965IDD-1.5#PBF; Discrete Pass Element: no; Dropout Voltage(V): 0.31; Iout(mA): 1100; Isupply(mA): 0.5; Noise(uV): 40; Number of Outputs: 1; Output Voltage: 1.5 V; PSRR(dB): 75; Vin Max(V): 20; Vin Min(V): 1.8; DatasheetVersion: Rev. A; PackageVersion: Jun-10; PackageReference: DD-8; PackageDescription: 8-Pin Plastic DFN, Body 3 x 3 mm, Pitch 0.5 mm; Supplier 1: Digi-Key; Supplier Part Number 1: LT1965IDD-1.5#PBF-ND; RoHS: TRUE; Shutdown Current(uA): 1; Mounting Technology: Surface Mount; Code_JEDEC: MO-229; ComponentLink1Description: Manufacturer URL; ComponentLink1URL: http://www.linear.com/; ComponentLink2Description: Datasheet; ComponentLink2URL: http://cds.linear.com/docs/en/datasheet/1965fa.pdf; ComponentLink3Description: Package Specification; ComponentLink3URL: http://cds.linear.com/docs/en/packaging/DFN_8_05-08-1698.pdf
footprint LT-DD-8_V (SON, 8-Leads, Body 3x3mm, Pitch 0.5mm, Thermal Pad 1.65x2.38 mm, IPC Low Density)
pins: 1 OUT (power) "Output. This pin supplies power to the load. Use a minimum output capacitor of 10uF to prevent oscillations. Large load transient applications require larger output capacitors to limit peak voltage transients. See the (See Datasheet)", 2 OUT (power) "Output. This pin supplies power to the load. Use a minimum output capacitor of 10uF to prevent oscillations. Large load transient applications require larger output capacitors to limit peak voltage transients. See the (See Datasheet)", 3 SENSE (in) "Sense. For fixed voltage versions of the LT1965 (LT1965-1.5/LT1965-1.8/ LT1965-2.5/ LT1965-3.3), the SENSE pin is the input to the error amplifier. Optimum regulation is obtained when the SENSE pin is connected to the OUT (See Datasheet)", 4 GND (power) "Ground.", 5 GND (power) "Ground.", 6 ~{SHDN} (in) "Shutdown. Pulling the S\H\D\N\ pin low puts the LT1965 into a low power state and turns the output off. Drive the S\H\D\N\ pin with either logic or an open collector/drain with a pull-up resistor. The resistor supplies the (See Datasheet)", 7 IN (power) "Input. This pin supplies power to the device. The LT1965 requires a bypass capacitor at IN if located more than six inches from the main input filter capacitor. Include a bypass capacitor in battery-powered circuits as a (See Datasheet)", 8 IN (power) "Input. This pin supplies power to the device. The LT1965 requires a bypass capacitor at IN if located more than six inches from the main input filter capacitor. Include a bypass capacitor in battery-powered circuits as a (See Datasheet)", 9 EP (power) "Ground. Tie this pin directly to Pins 4 and 5 and the PCB ground. This pin provides enhanced thermal performance with its connection to the PCB ground. See the Applications Information section for thermal considerations and (See Datasheet)"

## LT1965IDD-1.5#TRPBF
designator U?
1.1 A, Low Noise, Low Dropout Linear Regulator, 1.8 to 20 V Vin, 1.5 V Vout, 8-pin SON (DD-8), -40 to 125 degC, Pb-Free, Tape and Reel; Manufacturer: Linear Technology; PartNumber: LT1965IDD-1.5#TRPBF; Discrete Pass Element: no; Dropout Voltage(V): 0.31; Iout(mA): 1100; Isupply(mA): 0.5; Noise(uV): 40; Number of Outputs: 1; Output Voltage: 1.5 V; PSRR(dB): 75; Vin Max(V): 20; Vin Min(V): 1.8; DatasheetVersion: Rev. A; PackageVersion: Jun-10; PackageReference: DD-8; PackageDescription: 8-Pin Plastic DFN, Body 3 x 3 mm, Pitch 0.5 mm; Supplier 1: Digi-Key; Supplier Part Number 1: LT1965IDD-1.5#TRPBF-ND; Packing: Tape and Reel; RoHS: TRUE; Shutdown Current(uA): 1; Mounting Technology: Surface Mount; Code_JEDEC: MO-229; ComponentLink1Description: Manufacturer URL; ComponentLink1URL: http://www.linear.com/; ComponentLink2Description: Datasheet; ComponentLink2URL: http://cds.linear.com/docs/en/datasheet/1965fa.pdf; ComponentLink3Description: Package Specification; ComponentLink3URL: http://cds.linear.com/docs/en/packaging/DFN_8_05-08-1698.pdf
footprint LT-DD-8_V (SON, 8-Leads, Body 3x3mm, Pitch 0.5mm, Thermal Pad 1.65x2.38 mm, IPC Low Density)
pins: 1 OUT (power) "Output. This pin supplies power to the load. Use a minimum output capacitor of 10uF to prevent oscillations. Large load transient applications require larger output capacitors to limit peak voltage transients. See the (See Datasheet)", 2 OUT (power) "Output. This pin supplies power to the load. Use a minimum output capacitor of 10uF to prevent oscillations. Large load transient applications require larger output capacitors to limit peak voltage transients. See the (See Datasheet)", 3 SENSE (in) "Sense. For fixed voltage versions of the LT1965 (LT1965-1.5/LT1965-1.8/ LT1965-2.5/ LT1965-3.3), the SENSE pin is the input to the error amplifier. Optimum regulation is obtained when the SENSE pin is connected to the OUT (See Datasheet)", 4 GND (power) "Ground.", 5 GND (power) "Ground.", 6 ~{SHDN} (in) "Shutdown. Pulling the S\H\D\N\ pin low puts the LT1965 into a low power state and turns the output off. Drive the S\H\D\N\ pin with either logic or an open collector/drain with a pull-up resistor. The resistor supplies the (See Datasheet)", 7 IN (power) "Input. This pin supplies power to the device. The LT1965 requires a bypass capacitor at IN if located more than six inches from the main input filter capacitor. Include a bypass capacitor in battery-powered circuits as a (See Datasheet)", 8 IN (power) "Input. This pin supplies power to the device. The LT1965 requires a bypass capacitor at IN if located more than six inches from the main input filter capacitor. Include a bypass capacitor in battery-powered circuits as a (See Datasheet)", 9 EP (power) "Ground. Tie this pin directly to Pins 4 and 5 and the PCB ground. This pin provides enhanced thermal performance with its connection to the PCB ground. See the Applications Information section for thermal considerations and (See Datasheet)"

## LT1965IDD-1.8#PBF
designator U?
1.1 A, Low Noise, Low Dropout Linear Regulator, 1.8 to 20 V Vin, 1.8 V Vout, 8-pin SON (DD-8), -40 to 125 degC, Pb-Free; Manufacturer: Linear Technology; PartNumber: LT1965IDD-1.8#PBF; Discrete Pass Element: no; Dropout Voltage(V): 0.31; Iout(mA): 1100; Isupply(mA): 0.5; Noise(uV): 40; Number of Outputs: 1; Output Voltage: 1.8 V; PSRR(dB): 75; Vin Max(V): 20; Vin Min(V): 1.8; DatasheetVersion: Rev. A; PackageVersion: Jun-10; PackageReference: DD-8; PackageDescription: 8-Pin Plastic DFN, Body 3 x 3 mm, Pitch 0.5 mm; Supplier 1: Digi-Key; Supplier Part Number 1: LT1965IDD-1.8#PBF-ND; Supplier 2: Farnell; Supplier Part Number 2: 2295233; Supplier 3: Newark; Supplier Part Number 3: 24R6681; RoHS: TRUE; Shutdown Current(uA): 1; Mounting Technology: Surface Mount; Code_JEDEC: MO-229; ComponentLink1Description: Manufacturer URL; ComponentLink1URL: http://www.linear.com/; ComponentLink2Description: Datasheet; ComponentLink2URL: http://cds.linear.com/docs/en/datasheet/1965fa.pdf; ComponentLink3Description: Package Specification; ComponentLink3URL: http://cds.linear.com/docs/en/packaging/DFN_8_05-08-1698.pdf
footprint LT-DD-8_V (SON, 8-Leads, Body 3x3mm, Pitch 0.5mm, Thermal Pad 1.65x2.38 mm, IPC Low Density)
pins: 1 OUT (power) "Output. This pin supplies power to the load. Use a minimum output capacitor of 10uF to prevent oscillations. Large load transient applications require larger output capacitors to limit peak voltage transients. See the (See Datasheet)", 2 OUT (power) "Output. This pin supplies power to the load. Use a minimum output capacitor of 10uF to prevent oscillations. Large load transient applications require larger output capacitors to limit peak voltage transients. See the (See Datasheet)", 3 SENSE (in) "Sense. For fixed voltage versions of the LT1965 (LT1965-1.5/LT1965-1.8/ LT1965-2.5/ LT1965-3.3), the SENSE pin is the input to the error amplifier. Optimum regulation is obtained when the SENSE pin is connected to the OUT (See Datasheet)", 4 GND (power) "Ground.", 5 GND (power) "Ground.", 6 ~{SHDN} (in) "Shutdown. Pulling the S\H\D\N\ pin low puts the LT1965 into a low power state and turns the output off. Drive the S\H\D\N\ pin with either logic or an open collector/drain with a pull-up resistor. The resistor supplies the (See Datasheet)", 7 IN (power) "Input. This pin supplies power to the device. The LT1965 requires a bypass capacitor at IN if located more than six inches from the main input filter capacitor. Include a bypass capacitor in battery-powered circuits as a (See Datasheet)", 8 IN (power) "Input. This pin supplies power to the device. The LT1965 requires a bypass capacitor at IN if located more than six inches from the main input filter capacitor. Include a bypass capacitor in battery-powered circuits as a (See Datasheet)", 9 EP (power) "Ground. Tie this pin directly to Pins 4 and 5 and the PCB ground. This pin provides enhanced thermal performance with its connection to the PCB ground. See the Applications Information section for thermal considerations and (See Datasheet)"

## LT1965IDD-1.8#TRPBF
designator U?
1.1 A, Low Noise, Low Dropout Linear Regulator, 1.8 to 20 V Vin, 1.8 V Vout, 8-pin SON (DD-8), -40 to 125 degC, Pb-Free, Tape and Reel; Manufacturer: Linear Technology; PartNumber: LT1965IDD-1.8#TRPBF; Discrete Pass Element: no; Dropout Voltage(V): 0.31; Iout(mA): 1100; Isupply(mA): 0.5; Noise(uV): 40; Number of Outputs: 1; Output Voltage: 1.8 V; PSRR(dB): 75; Vin Max(V): 20; Vin Min(V): 1.8; DatasheetVersion: Rev. A; PackageVersion: Jun-10; PackageReference: DD-8; PackageDescription: 8-Pin Plastic DFN, Body 3 x 3 mm, Pitch 0.5 mm; Supplier 1: Digi-Key; Supplier Part Number 1: LT1965IDD-1.8#TRPBF-ND; Packing: Tape and Reel; RoHS: TRUE; Shutdown Current(uA): 1; Mounting Technology: Surface Mount; Code_JEDEC: MO-229; ComponentLink1Description: Manufacturer URL; ComponentLink1URL: http://www.linear.com/; ComponentLink2Description: Datasheet; ComponentLink2URL: http://cds.linear.com/docs/en/datasheet/1965fa.pdf; ComponentLink3Description: Package Specification; ComponentLink3URL: http://cds.linear.com/docs/en/packaging/DFN_8_05-08-1698.pdf
footprint LT-DD-8_V (SON, 8-Leads, Body 3x3mm, Pitch 0.5mm, Thermal Pad 1.65x2.38 mm, IPC Low Density)
pins: 1 OUT (power) "Output. This pin supplies power to the load. Use a minimum output capacitor of 10uF to prevent oscillations. Large load transient applications require larger output capacitors to limit peak voltage transients. See the (See Datasheet)", 2 OUT (power) "Output. This pin supplies power to the load. Use a minimum output capacitor of 10uF to prevent oscillations. Large load transient applications require larger output capacitors to limit peak voltage transients. See the (See Datasheet)", 3 SENSE (in) "Sense. For fixed voltage versions of the LT1965 (LT1965-1.5/LT1965-1.8/ LT1965-2.5/ LT1965-3.3), the SENSE pin is the input to the error amplifier. Optimum regulation is obtained when the SENSE pin is connected to the OUT (See Datasheet)", 4 GND (power) "Ground.", 5 GND (power) "Ground.", 6 ~{SHDN} (in) "Shutdown. Pulling the S\H\D\N\ pin low puts the LT1965 into a low power state and turns the output off. Drive the S\H\D\N\ pin with either logic or an open collector/drain with a pull-up resistor. The resistor supplies the (See Datasheet)", 7 IN (power) "Input. This pin supplies power to the device. The LT1965 requires a bypass capacitor at IN if located more than six inches from the main input filter capacitor. Include a bypass capacitor in battery-powered circuits as a (See Datasheet)", 8 IN (power) "Input. This pin supplies power to the device. The LT1965 requires a bypass capacitor at IN if located more than six inches from the main input filter capacitor. Include a bypass capacitor in battery-powered circuits as a (See Datasheet)", 9 EP (power) "Ground. Tie this pin directly to Pins 4 and 5 and the PCB ground. This pin provides enhanced thermal performance with its connection to the PCB ground. See the Applications Information section for thermal considerations and (See Datasheet)"